# Altium footprint library RES_VAR.PcbLib: 1 footprints
Each footprint in its own frame and in the unit in brackets; x right, y up, seen from the top. Pads: shape width x height; smd on the part's side, far side on the other; paste and mask are expansions set on the pad; w line width, h text height; cw(c..) or ccw(c..) is an arc to the next point about the centre after c.
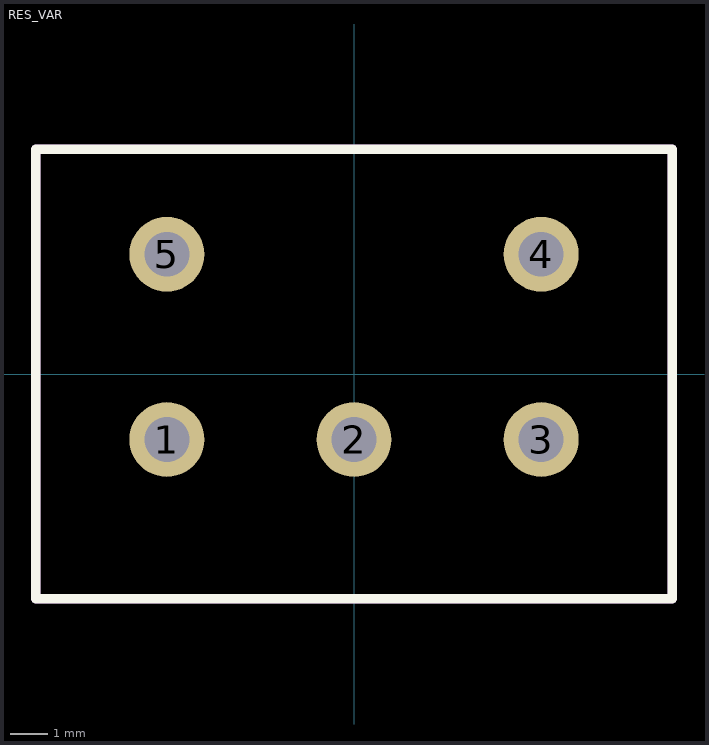
[diagram p0: the footprint, top view; thin cyan lines are the x and y axes]

## RES_VAR [mm]
pads (5):
  round 2 hole 1.2: 1(-5,-1.75) 2(0,-1.75) 3(5,-1.75) 4(5,3.2) 5(-5,3.2)
Top Overlay:
  lines w0.254: -8.5,-6 8.5,-6 8.5,6 -8.5,6 -8.5,-6
Top Assembly:
  lines w0.254: -8.5,-6 -8.5,6 8.5,6 8.5,-6 -8.5,-6
  text "'.Designator'" at 0,0 h0.7
3D body "Pot_two_PCB.STEP": height 22.49, standoff -2.1, extent -8.5,-24.35 8.5,5.944